# EAGLE library part 618015231221 (library Wuerth_Elektronik_eiCan_D-SUB_Connectors)
WR-DSUB 8.08mm Male Angled PCB Connector with Hex Screw, 15 Pins
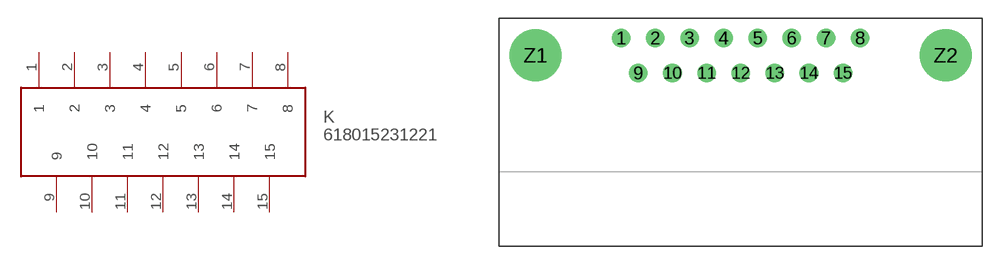
[diagram p17: symbol with the pads of 618015231221; footprint 618015231221]

Designator prefix K

## 618015231221  [618015231221]
1  1
2  2
3  3
4  4
5  5
6  6
7  7
8  8
9  9
10  10
11  11
12  12
13  13
14  14
15  15

## Footprint 618015231221 (pad centres in mm)
WR-DSUB 8.08mm Male Angled PCB Connector with Hex Screw, 15 Pins
drill 1 round: 1 -9.695,1.42; 2 -6.925,1.42; 3 -4.155,1.42; 4 -1.385,1.42; 5 1.385,1.42; 6 4.155,1.42; 7 6.925,1.42; 8 9.695,1.42; 9 -8.31,-1.42; 10 -5.54,-1.42; 11 -2.77,-1.42; 12 0,-1.42; 13 2.77,-1.42; 14 5.54,-1.42; 15 8.31,-1.42
drill 3.2 round: Z1 -16.65,0; Z2 16.65,0